# Altium footprint library ToponLib.PcbLib: 57 footprints (part 4 of 4)
Each footprint in its own frame and in the unit in brackets; x right, y up, seen from the top. Pads: shape width x height; smd on the part's side, far side on the other; paste and mask are expansions set on the pad; w line width, h text height; cw(c..) or ccw(c..) is an arc to the next point about the centre after c.
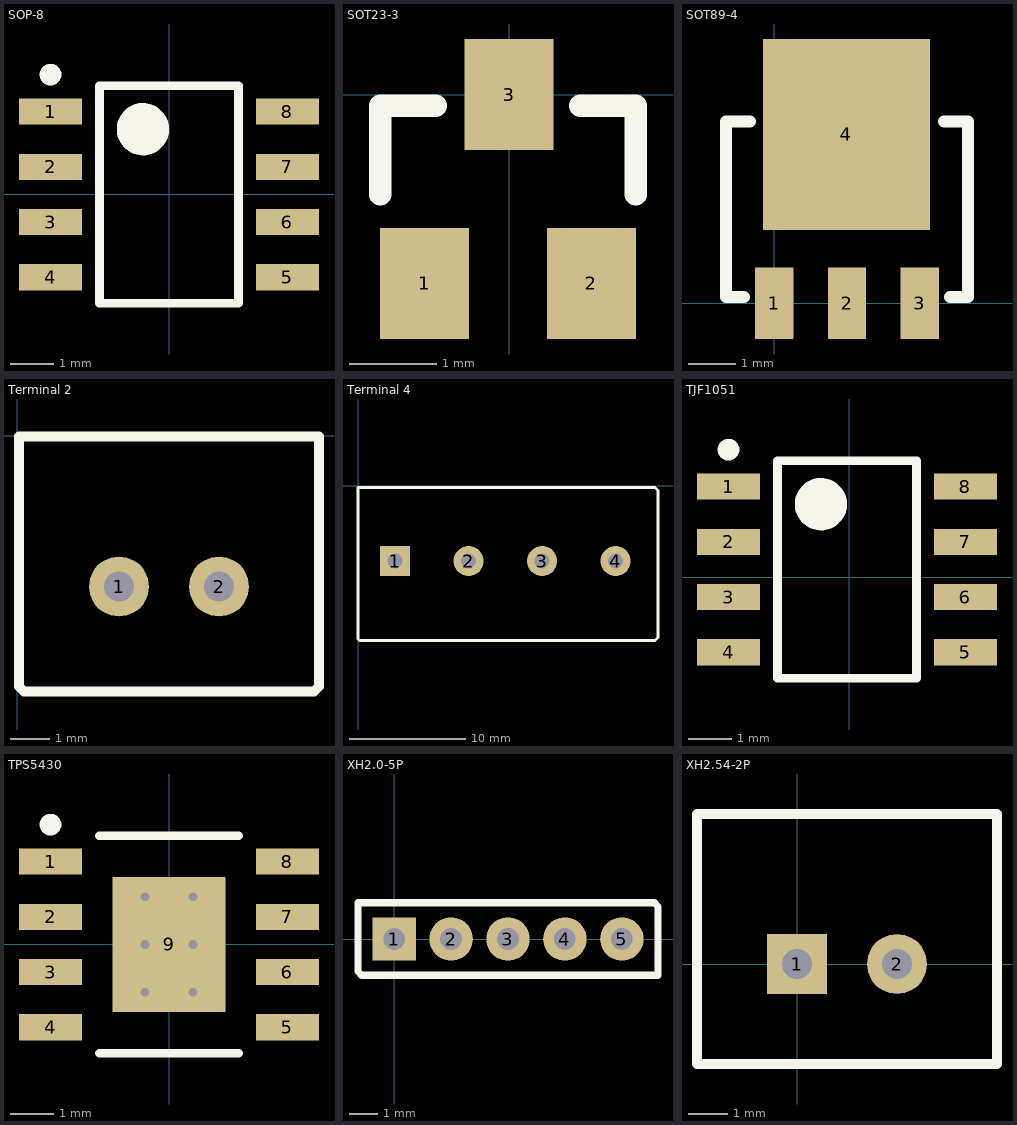
[diagram p3: the footprints below, top view; thin cyan lines are the x and y axes]

## SOP-8 [mm]
height 1.75
pads (8):
  rect 1.45x0.6 smd: 1(-2.725,1.905) 2(-2.725,0.635) 3(-2.725,-0.635) 4(-2.725,-1.905) 5(2.725,-1.905) 6(2.725,-0.635) 7(2.725,0.635) 8(2.725,1.905)
Top Overlay:
  circle w0.6: c-0.6,1.5 r0.3
  circle w0.25: c-2.725,2.755 r0.125
  lines w0.2: -1.6,-2.5 1.6,-2.5 1.6,2.5 -1.6,2.5 -1.6,-2.5

## SOT23-3 [mil]
pads (3):
  rect 40x50 smd: 1(-37.99,-85) 2(37.01,-85) 3(0.01,0)
Top Overlay:
  lines w10: -57.99,-45 -57.99,-5 -32.99,-5 ; 32.01,-5 57.01,-5 57.01,-45

## SOT89-4 [mm]
pads (4):
  rect 0.8x1.5 smd: 1(0,0) 2(1.524,0) 3(3.048,0)
  rect 3.5x4 smd: 4(1.512,3.538)
Top Overlay:
  lines w0.254: -0.635,0.127 -1.016,0.127 -1.016,3.81 -0.508,3.81 ; 3.556,3.81 4.064,3.81 4.064,0.127 3.683,0.127

## Terminal 2 [mil]
pads (2):
  round 60 hole 30: 1(102,-151) 2(202,-151)
Top Overlay:
  lines w10: 2,-251 2,-1 302,-1 302,-251 297,-256 7,-256 2,-251

## Terminal 4 [mm]
pads (4):
  rect 2.6x2.6 hole 1.3: 1(3.2,-6.502)
  round 2.6 hole 1.3: 2(9.55,-6.502) 3(15.9,-6.502) 4(22.25,-6.502)
Top Overlay:
  lines w0.254: 0,-13.233 0,-0.152 25.654,-0.152 25.908,-0.406 25.908,-13.106 25.654,-13.36 0.508,-13.36 0.127,-13.36 0,-13.233

## TJF1051 [mm]
pads (8):
  rect 1.45x0.6 smd: 1(-2.776,2.083) 2(-2.776,0.813) 3(-2.776,-0.457) 4(-2.776,-1.727) 5(2.674,-1.727) 6(2.674,-0.457) 7(2.674,0.813) 8(2.674,2.083)
Top Overlay:
  circle w0.25: c-2.776,2.933 r0.125
  circle w0.6: c-0.651,1.678 r0.3
  lines w0.2: -1.651,-2.322 -1.651,2.678 1.549,2.678 1.549,-2.322 -1.651,-2.322

## TPS5430 [mm]
pads (9):
  rect 1.45x0.6 smd: 1(-2.725,1.905) 2(-2.725,0.635) 3(-2.725,-0.635) 4(-2.725,-1.905) 5(2.725,-1.905) 6(2.725,-0.635) 7(2.725,0.635) 8(2.725,1.905)
  rect 2.6x3.1 smd: 9(0,0)
via 0.55,-1.1 diameter 0.5 hole 0.2
via -0.55,-1.1 diameter 0.5 hole 0.2
via 0.55,0 diameter 0.5 hole 0.2
via -0.55,0 diameter 0.5 hole 0.2
via 0.55,1.1 diameter 0.5 hole 0.2
via -0.55,1.1 diameter 0.5 hole 0.2
Top Overlay:
  circle w0.25: c-2.725,2.755 r0.125
  lines w0.2: -1.6,-2.5 1.6,-2.5 ; -1.6,2.5 1.6,2.5

## XH2.0-5P [mil]
pads (5):
  rect 60x60 hole 30: 1(0,0)
  round 60 hole 30: 2(78.74,0) 3(157.48,0) 4(236.22,0) 5(314.96,0)
Top Overlay:
  lines w10: -50,-45 -45,-50 365,-50 365,45 360,50 -50,50 -50,-25 -50,-45

## XH2.54-2P [mil]
pads (2):
  rect 60x60 hole 30: 1(0,0)
  round 60 hole 30: 2(100,0)
Top Overlay:
  lines w10: -100,-100 -100,150 200,150 200,-100 -100,-100